# Altium schematic symbol library CAP_SMD.SchLib: 8 symbols
Pins are listed as number, name and electrical type; pins without a type are passive.

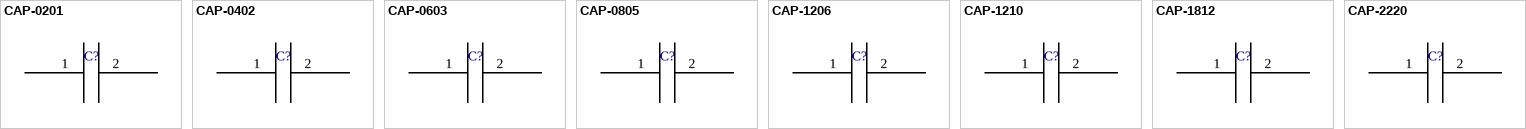
[diagram p0: symbols CAP-0201 to CAP-2220]

## CAP-0201
designator C?
footprint CAP-0201
pins: 1, 2

## CAP-0402
designator C?
footprint CAP-0402
pins: 1, 2

## CAP-0603
designator C?
footprint CAP-0603
pins: 1, 2

## CAP-0805
designator C?
footprint CAP-0805
pins: 1, 2

## CAP-1206
designator C?
footprint CAP-1206
pins: 1, 2

## CAP-1210
designator C?
footprint CAP-1210
pins: 1, 2

## CAP-1812
designator C?
footprint CAP-1812
pins: 1, 2

## CAP-2220
designator C?
footprint CAP-2220
pins: 1, 2